# Altium footprint library IBC_prijamnik_VB.PcbLib: 19 footprints (part 2 of 2)
Each footprint in its own frame and in the unit in brackets; x right, y up, seen from the top. Pads: shape width x height; smd on the part's side, far side on the other; paste and mask are expansions set on the pad; w line width, h text height; cw(c..) or ccw(c..) is an arc to the next point about the centre after c.
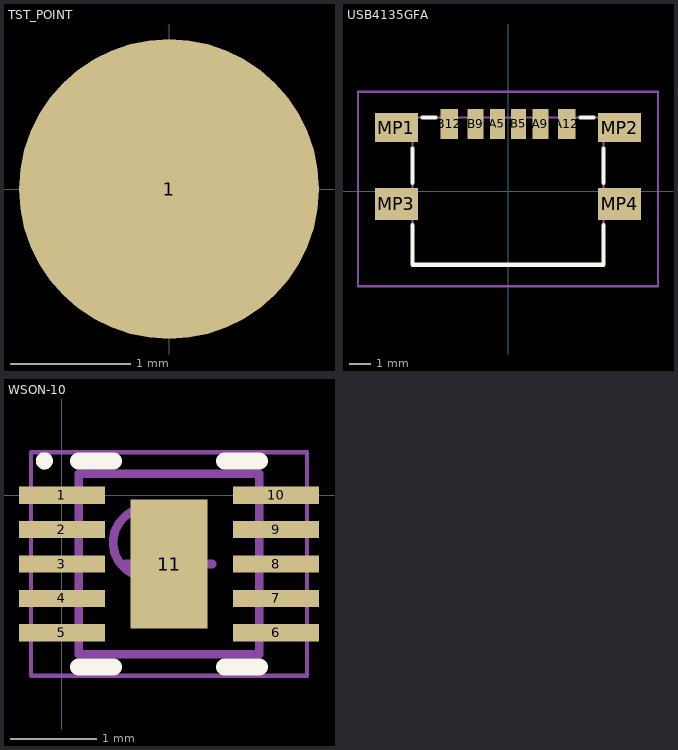
[diagram p1: the footprints below, top view; thin cyan lines are the x and y axes]

## TST_POINT [mm]
pads (1):
  round 2.5 smd: 1(0,0)

## USB4135GFA [mm]
pads (10):
  rect 0.7x1.4 smd: A5(-0.5,3.155) B5(0.5,3.155)
  rect 0.76x1.4 smd: A9(1.52,3.155) B9(-1.52,3.155)
  rect 0.8x1.4 smd: A12(2.75,3.155) B12(-2.75,3.155)
  rect 2x1.35 smd: MP1(-5.225,2.98) MP2(5.225,2.98)
  rect 2x1.5 smd: MP3(-5.225,-0.6) MP4(5.225,-0.6)
Top Overlay:
  lines w0.2: -4.47,-1.6 -4.47,-3.45 4.47,-3.45 4.47,-1.6 ; -4.47,0.4 -4.47,2 ; -4,3.45 -3.4,3.45 ; 3.4,3.45 4,3.45 ; 4.47,0.4 4.47,2
Mechanical 15:
  lines w0.1: -4.47,-3.45 4.47,-3.45 4.47,3.45 -4.47,3.45 -4.47,-3.45
Mechanical 20:
  lines w0.1: -7.025,-4.45 7.025,-4.45 7.025,4.655 -7.025,4.655 -7.025,-4.45
3D body "USB4135-GF-A.stp": height 3.23, standoff -0.02, extent -5.57,-3.471 5.57,3.429

## WSON-10 [mm]
height 0.8
pads (11):
  rect 1x0.2 smd: 1(0,0) 2(0,-0.4) 3(0,-0.8) 4(0,-1.2) 5(0,-1.6) 6(2.49,-1.6) 7(2.49,-1.2) 8(2.49,-0.8) 9(2.49,-0.4) 10(2.49,0)
  rect 0.9x1.5 smd: 11(1.245,-0.8)
Top Overlay:
  circle w0.1: c-0.205,0.4 r0.05
  lines w0.2: 0.195,-2 0.6,-2 ; 0.195,0.4 0.6,0.4 ; 1.89,-2 2.295,-2 ; 1.89,0.4 2.295,0.4
Top Assembly:
  circle w0.1: c0.995,-0.55 r0.4
  lines w0.1: 0.195,-1.85 2.295,-1.85 2.295,0.25 0.195,0.25 0.195,-1.85
Mechanical 15:
  lines w0.05: -0.36,-2.1 2.85,-2.1 2.85,0.5 -0.36,0.5 -0.36,-2.1
  lines w0.1: 0.745,-0.8 1.745,-0.8 ; 1.245,-1.3 1.245,-0.3
3D body "BQ24040DSQR.stp": height 0.8, standoff 0, extent 0.195,-1.8 2.295,0.2